# Altium footprint library con-molex-micro-fit-3_0.PCBLIB: 194 footprints (part 9 of 13)
Each footprint in its own frame and in the unit in brackets; x right, y up, seen from the top. Pads: shape width x height; smd on the part's side, far side on the other; paste and mask are expansions set on the pad; w line width, h text height; cw(c..) or ccw(c..) is an arc to the next point about the centre after c.
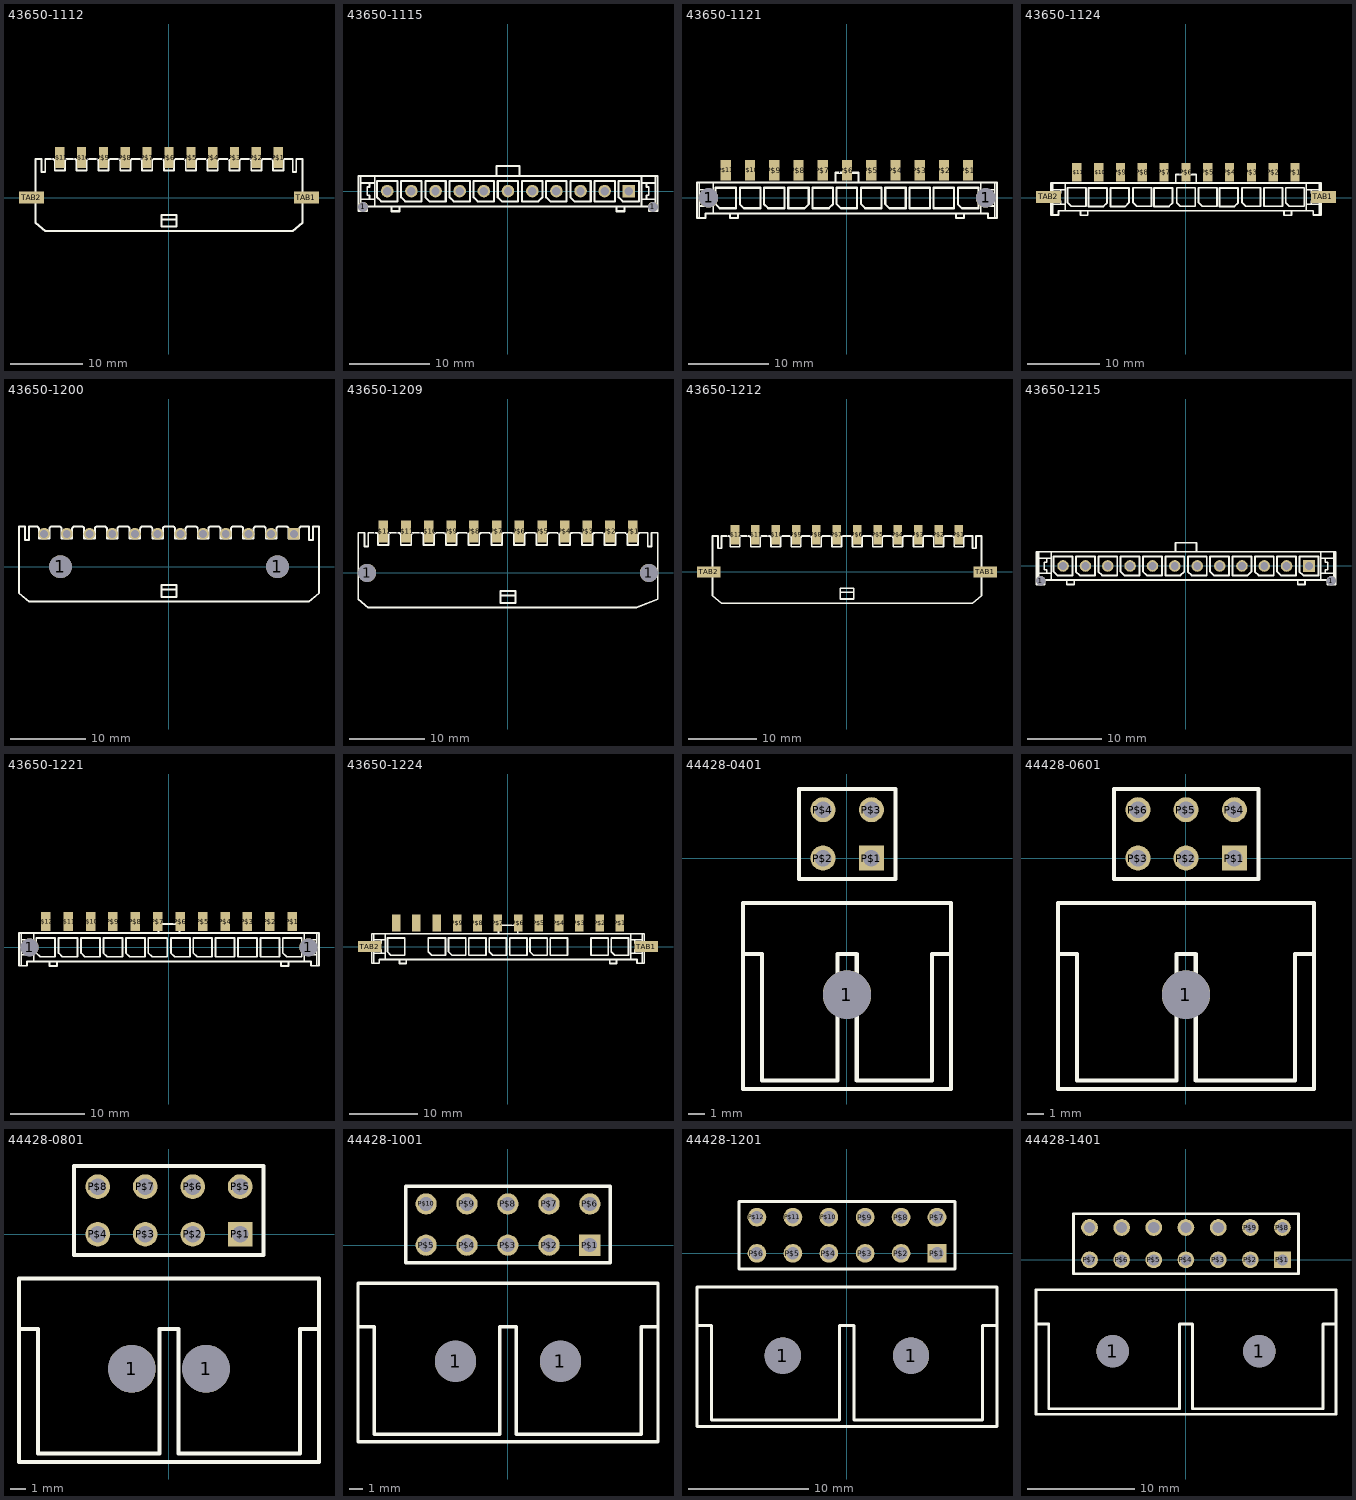
[diagram p8: the footprints below, top view; thin cyan lines are the x and y axes]

## 43650-1112 [mil]
pads (13):
  rect 50x115 smd: P$1(591,216) P$2(473,216) P$3(355,216) P$4(237,216) P$5(119,216) P$6(0,216) P$7(-118.11,216) P$8(-236.22,216) P$9(-354.33,216) P$10(-472.44,216) P$11(-590.55,216)
  rect 136x65 smd: TAB1(744,0) TAB2(-743.31,0)
Top Overlay:
  lines w10: -39.37,-118.11 -39.37,-157.48 40,-157.48 40,-118.11 ; -39.37,-118.11 -39.37,-94.49 40,-94.49 40,-118.11 ; -39.37,-118.11 40,-118.11 ; -721.26,-137.8 -721.26,209 -688.98,209 -688.98,138 -669.29,138 -669.29,209 -629.92,209 cw(c-630.02,197.09) -618.11,197 -618.11,146 -562.99,146 -562.99,197 cw(c-551.09,197.09) -551.18,209 -511.81,209 cw(c-511.91,197.09) -500,197 -500,146 -444.88,146 -444.88,197 cw(c-432.98,197.09) -433.07,209 -393.7,209 cw(c-393.8,197.09) -381.89,197 -381.89,146 -326.77,146 -326.77,197 cw(c-314.87,197.09) -314.96,209 -275.59,209 cw(c-275.69,197.09) -263.78,197 -263.78,146 -208.66,146 -208.66,197 cw(c-196.76,197.09) -196.85,209 -157.48,209 cw(c-157.57,197.09) -145.67,197 -145.67,146 -90.55,146 -90.55,197 cw(c-78.65,197.09) -78.74,209 -39.37,209 cw(c-39.46,197.09) -27.56,197 -27.56,146 28,146 28,197 cw(c40,197) 40,209 79,209 cw(c79,197) 91,197 91,146 146,146 146,197 cw(c158,197) 158,209 197,209 cw(c197,197) 209,197 209,146 264,146 264,197 cw(c276,197) 276,209 315,209 cw(c315,197) 327,197 327,146 382,146 382,197 cw(c394,197) 394,209 434,209 cw(c433.5,197.5) 445,197 445,146 500,146 500,197 cw(c512,197) 512,209 552,209 cw(c549.5,195.67) 563,197 563,146 619,146 619,197 cw(c630.5,197.5) 630,209 670,209 670,138 689,138 689,209 722,209 722,-137.8 670,-181.1 -669.29,-181.1 -721.26,-137.8

## 43650-1115 [mil]
pads (13):
  round 50 hole 50: 1(-708.66,-77.17) 1(709,-77.17)
  rect 61.5x61.5 hole 41: P$1(591,0)
  round 61.5 hole 41: P$2(473,0) P$3(355,0) P$4(237,0) P$5(119,0) P$6(0,0) P$7(-118.11,0) P$8(-236.22,0) P$9(-354.33,0) P$10(-472.44,0) P$11(-590.55,0)
Top Overlay:
  lines w8: -720.47,-97.24 -720.47,-39.37 ; -720.47,75 -720.47,40 ; -652.36,-74.8 -652.36,-39.37 ; -652.36,75 -652.36,40 ; 653,-74.8 653,-39.37 ; 653,75 653,40 ; 721,-97.24 721,-39.37 ; 721,75 721,40 ; -720.47,-39.37 -720.47,40 ; -720.47,-39.37 -677.17,-39.37 ; -720.47,40 -677.17,40 ; -677.17,-39.37 -652.36,-39.37 ; -677.17,-39.37 -677.17,-19.68 -688.98,-19.68 -688.98,20 -677.17,20 -677.17,40 ; -677.17,40 -652.36,40 ; -652.36,-39.37 -652.36,40 ; 653,-39.37 653,40 ; 653,-39.37 678,-39.37 ; 653,40 678,40 ; 678,-39.37 721,-39.37 ; 678,-39.37 678,-19.68 689,-19.68 689,20 678,20 678,40 ; 678,40 721,40 ; 721,-39.37 721,40
  lines w10: -570.87,-74.8 -531.5,-74.8 ; -570.87,-74.8 -652.36,-74.8 -688.98,-74.8 -688.98,-97.24 -720.47,-97.24 -731.3,-97.24 -731.3,75 -720.47,75 -652.36,75 -55.12,75 ; -570.87,-74.8 -570.87,-98.43 -531.5,-98.43 -531.5,-74.8 ; -531.5,-74.8 532,-74.8 ; -55.12,75 56,75 ; -55.12,75 -55.12,123 56,123 56,75 ; 56,75 653,75 721,75 732,75 732,-97.24 721,-97.24 689,-97.24 689,-74.8 653,-74.8 571,-74.8 ; 532,-74.8 571,-74.8 ; 532,-74.8 532,-98.43 571,-98.43 571,-74.8 ; -640.55,-30 -640.55,50 -540.55,50 -540.55,-50 -620.55,-50 -640.55,-30 ; -522.44,-30 -522.44,50 -422.44,50 -422.44,-50 -502.44,-50 -522.44,-30 ; -404.33,-30 -404.33,50 -304.33,50 -304.33,-50 -384.33,-50 -404.33,-30 ; -286.22,-30 -286.22,50 -186.22,50 -186.22,-50 -266.22,-50 -286.22,-30 ; -168.11,-30 -168.11,50 -68.11,50 -68.11,-50 -148.11,-50 -168.11,-30 ; -50,-30 -50,50 50,50 50,-50 -30,-50 -50,-30 ; 69,-50 69,50 169,50 169,-30 149,-50 69,-50 ; 187,-30 187,50 287,50 287,-50 207,-50 187,-30 ; 305,-30 305,50 405,50 405,-50 325,-50 305,-30 ; 423,-50 423,50 523,50 523,-50 423,-50 ; 541,-30 541,50 641,50 641,-50 561,-50 541,-30

## 43650-1121 [mil]
pads (13):
  round 95 hole 95: 1(-675.2,0) 1(676,0)
  rect 50x100 smd: P$1(591,136) P$2(473,136) P$3(355,136) P$4(237,136) P$5(119,136) P$6(0,136) P$7(-118.11,136) P$8(-236.22,136) P$9(-354.33,136) P$10(-472.44,136) P$11(-590.55,136)
Top Overlay:
  lines w8: -720.47,-97.24 -720.47,-39.37 ; -720.47,75 -720.47,40 ; -652.36,-74.8 -652.36,-39.37 ; -652.36,75 -652.36,40 ; 653,-74.8 653,-39.37 ; 653,75 653,40 ; 721,-97.24 721,-39.37 ; 721,75 721,40 ; -720.47,-39.37 -720.47,40 ; -720.47,-39.37 -677.17,-39.37 ; -720.47,40 -677.17,40 ; -677.17,-39.37 -652.36,-39.37 ; -677.17,-39.37 -677.17,-19.68 -688.98,-19.68 -688.98,20 -677.17,20 -677.17,40 ; -677.17,40 -652.36,40 ; -652.36,-39.37 -652.36,40 ; 653,-39.37 653,40 ; 653,-39.37 678,-39.37 ; 653,40 678,40 ; 678,-39.37 721,-39.37 ; 678,-39.37 678,-19.68 689,-19.68 689,20 678,20 678,40 ; 678,40 721,40 ; 721,-39.37 721,40
  lines w10: -570.87,-74.8 -531.5,-74.8 ; -570.87,-74.8 -652.36,-74.8 -688.98,-74.8 -688.98,-97.24 -720.47,-97.24 -731.3,-97.24 -731.3,75 -720.47,75 -652.36,75 -55.12,75 ; -570.87,-74.8 -570.87,-98.43 -531.5,-98.43 -531.5,-74.8 ; -531.5,-74.8 532,-74.8 ; -55.12,75 56,75 ; -55.12,75 -55.12,123 56,123 56,75 ; 56,75 653,75 721,75 732,75 732,-97.24 721,-97.24 689,-97.24 689,-74.8 653,-74.8 571,-74.8 ; 532,-74.8 571,-74.8 ; 532,-74.8 532,-98.43 571,-98.43 571,-74.8 ; -640.55,-30 -640.55,50 -540.55,50 -540.55,-50 -620.55,-50 -640.55,-30 ; -522.44,-30 -522.44,50 -422.44,50 -422.44,-50 -502.44,-50 -522.44,-30 ; -404.33,-30 -404.33,50 -304.33,50 -304.33,-50 -384.33,-50 -404.33,-30 ; -286.22,-50 -286.22,50 -186.22,50 -186.22,-30 -206.22,-50 -286.22,-50 ; -168.11,-50 -168.11,50 -68.11,50 -68.11,-30 -88.11,-50 -168.11,-50 ; -50,-30 -50,50 50,50 50,-50 -30,-50 -50,-30 ; 69,-30 69,50 169,50 169,-50 89,-50 69,-30 ; 187,-30 187,50 287,50 287,-50 207,-50 187,-30 ; 305,-50 405,-50 405,50 305,50 305,-50 ; 423,-50 523,-50 523,50 423,50 423,-50 ; 541,-30 541,50 641,50 641,-50 561,-50 541,-30

## 43650-1124 [mil]
pads (13):
  rect 50x100 smd: P$1(592,138) P$2(474,138) P$3(356,138) P$4(238,138) P$5(120,138) P$6(2,138) P$7(-116.68,138) P$8(-234.79,138) P$9(-352.9,138) P$10(-471.01,138) P$11(-589.12,138)
  rect 136x65 smd: TAB1(746,3) TAB2(-742.27,3)
Top Overlay:
  lines w8: -719.04,-94.37 -719.04,-36.5 ; -719.04,78 -719.04,43 ; -650.93,-71.93 -650.93,-36.5 ; -650.93,78 -650.93,43 ; 654,-71.93 654,-36.5 ; 654,78 654,43 ; 722,-94.37 722,-36.5 ; 722,78 722,43 ; -719.04,-36.5 -719.04,43 ; -719.04,-36.5 -675.73,-36.5 ; -719.04,43 -675.73,43 ; -675.73,-36.5 -650.93,-36.5 ; -675.73,-36.5 -675.73,-16.81 -687.54,-16.81 -687.54,23 -675.73,23 -675.73,43 ; -675.73,43 -650.93,43 ; -650.93,-36.5 -650.93,43 ; 654,-36.5 654,43 ; 654,-36.5 679,-36.5 ; 654,43 679,43 ; 679,-36.5 722,-36.5 ; 679,-36.5 679,-16.81 691,-16.81 691,23 679,23 679,43 ; 679,43 722,43 ; 722,-36.5 722,43
  lines w10: -569.43,-71.93 -530.06,-71.93 ; -569.43,-71.93 -650.93,-71.93 -687.54,-71.93 -687.54,-94.37 -719.04,-94.37 -729.87,-94.37 -729.87,78 -719.04,78 -650.93,78 -53.69,78 ; -569.43,-71.93 -569.43,-95.55 -530.06,-95.55 -530.06,-71.93 ; -530.06,-71.93 533,-71.93 ; -53.69,78 57,78 ; -53.69,78 -53.69,125 57,125 57,78 ; 57,78 654,78 722,78 733,78 733,-94.37 722,-94.37 691,-94.37 691,-71.93 654,-71.93 573,-71.93 ; 533,-71.93 573,-71.93 ; 533,-71.93 533,-95.55 573,-95.55 573,-71.93 ; -639.12,-27.13 -639.12,53 -539.12,53 -539.12,-47.13 -619.12,-47.13 -639.12,-27.13 ; -525.32,-48.57 -525.32,52 -425.31,52 -425.31,-28.57 -445.31,-48.57 -525.32,-48.57 ; -407.2,-48.57 -407.2,52 -307.2,52 -307.2,-28.57 -327.2,-48.57 -407.2,-48.57 ; -284.79,-27.13 -284.79,53 -184.79,53 -184.79,-47.13 -264.79,-47.13 -284.79,-27.13 ; -170.98,-48.57 -170.98,52 -70.98,52 -70.98,-28.57 -90.98,-48.57 -170.98,-48.57 ; -48.57,-27.13 -48.57,53 52,53 52,-47.13 -28.57,-47.13 -48.57,-27.13 ; 70,-27.13 70,53 170,53 170,-47.13 90,-47.13 70,-27.13 ; 184,-48.57 184,52 284,52 284,-28.57 264,-48.57 184,-48.57 ; 306,-27.13 306,53 406,53 406,-47.13 326,-47.13 306,-27.13 ; 424,-47.13 524,-47.13 524,53 424,53 424,-47.13 ; 542,-27.13 542,53 642,53 642,-47.13 562,-47.13 542,-27.13

## 43650-1200 [mil]
pads (14):
  round 119 hole 119: 1(-564.96,0) 1(565,0)
  rect 61.5x61.5 hole 41: P$1(650,171)
  round 61.5 hole 41: P$2(532,171) P$3(414,171) P$4(296,171) P$5(178,171) P$6(60,171) P$7(-59.06,171) P$8(-177.17,171) P$9(-295.28,171) P$10(-413.39,171) P$11(-531.5,171) P$12(-649.61,171)
Top Overlay:
  lines w10: -39.37,-118.11 -39.37,-157.48 40,-157.48 40,-118.11 ; -39.37,-118.11 -39.37,-94.49 40,-94.49 40,-118.11 ; -39.37,-118.11 40,-118.11 ; -780.32,-137.8 -780.32,209 -748.03,209 -748.03,138 -728.35,138 -728.35,209 -688.98,209 cw(c-689.07,197.09) -677.17,197 -677.17,146 -622.05,146 -622.05,197 cw(c-610.14,197.09) -610.24,209 -570.87,209 cw(c-570.96,197.09) -559.06,197 -559.06,146 -503.94,146 -503.94,197 cw(c-492.03,197.09) -492.13,209 -452.76,209 cw(c-452.85,197.09) -440.94,197 -440.94,146 -385.83,146 -385.83,197 cw(c-373.92,197.09) -374.02,209 -334.65,209 cw(c-334.74,197.09) -322.83,197 -322.83,146 -267.72,146 -267.72,197 cw(c-255.81,197.09) -255.91,209 -216.54,209 cw(c-216.63,197.09) -204.72,197 -204.72,146 -149.61,146 -149.61,197 cw(c-137.7,197.09) -137.8,209 -98.43,209 cw(c-98.52,197.09) -86.61,197 -86.61,146 -31.5,146 -31.5,197 cw(c-19.59,197.09) -19.69,209 20,209 cw(c20,197) 32,197 32,146 87,146 87,197 cw(c99,197) 99,209 138,209 cw(c138,197) 150,197 150,146 205,146 205,197 cw(c217,197) 217,209 256,209 cw(c256,197) 268,197 268,146 323,146 323,197 cw(c335,197) 335,209 375,209 cw(c374.5,197.5) 386,197 386,146 441,146 441,197 cw(c453,197) 453,209 493,209 cw(c492.5,197.5) 504,197 504,146 560,146 560,197 cw(c571.5,197.5) 571,209 611,209 cw(c609,195) 623,197 623,146 678,146 678,197 cw(c689.5,197.5) 689,209 729,209 729,138 749,138 749,209 781,209 781,-137.8 729,-181.1 -728.35,-181.1 -780.32,-137.8

## 43650-1209 [mil]
pads (14):
  round 95 hole 95: 1(-734.25,0) 1(735,0)
  rect 50x115 smd: P$1(650,216) P$2(532,216) P$3(414,216) P$4(296,216) P$5(178,216) P$6(60,216) P$7(-59.06,216) P$8(-177.17,216) P$9(-295.28,216) P$10(-413.39,216) P$11(-531.5,216) P$12(-649.61,216)
Top Overlay:
  lines w10: -39.37,-118.11 -39.37,-157.48 40,-157.48 40,-118.11 ; -39.37,-118.11 -39.37,-94.49 40,-94.49 40,-118.11 ; -39.37,-118.11 40,-118.11 ; -780.32,-137.8 -780.32,209 -748.03,209 -748.03,138 -728.35,138 -728.35,209 -688.98,209 cw(c-689.07,197.09) -677.17,197 -677.17,146 -622.05,146 -622.05,197 cw(c-610.14,197.09) -610.24,209 -570.87,209 cw(c-570.96,197.09) -559.06,197 -559.06,146 -503.94,146 -503.94,197 cw(c-492.03,197.09) -492.13,209 -452.76,209 cw(c-452.85,197.09) -440.94,197 -440.94,146 -385.83,146 -385.83,197 cw(c-373.92,197.09) -374.02,209 -334.65,209 cw(c-334.74,197.09) -322.83,197 -322.83,146 -267.72,146 -267.72,197 cw(c-255.81,197.09) -255.91,209 -216.54,209 cw(c-216.63,197.09) -204.72,197 -204.72,146 -149.61,146 -149.61,197 cw(c-137.7,197.09) -137.8,209 -98.43,209 cw(c-98.52,197.09) -86.61,197 -86.61,146 -31.5,146 -31.5,197 cw(c-19.59,197.09) -19.69,209 20,209 cw(c20,197) 32,197 32,146 87,146 87,197 cw(c99,197) 99,209 138,209 cw(c138,197) 150,197 150,146 205,146 205,197 cw(c217,197) 217,209 256,209 cw(c256,197) 268,197 268,146 323,146 323,197 cw(c335,197) 335,209 375,209 cw(c374.5,197.5) 386,197 386,146 441,146 441,197 cw(c453,197) 453,209 493,209 cw(c492.5,197.5) 504,197 504,146 560,146 560,197 cw(c571.5,197.5) 571,209 611,209 cw(c609,195) 623,197 623,146 678,146 678,197 cw(c689.5,197.5) 689,209 729,209 729,138 749,138 749,209 781,209 781,-137.8 670,-181.1 -728.35,-181.1 -780.32,-137.8

## 43650-1212 [mil]
pads (14):
  rect 50x115 smd: P$1(650,216) P$2(532,216) P$3(414,216) P$4(296,216) P$5(178,216) P$6(60,216) P$7(-59.06,216) P$8(-177.17,216) P$9(-295.28,216) P$10(-413.39,216) P$11(-531.5,216) P$12(-649.61,216)
  rect 136x65 smd: TAB1(803,0) TAB2(-802.36,0)
Top Overlay:
  lines w10: -39.37,-118.11 -39.37,-157.48 40,-157.48 40,-118.11 ; -39.37,-118.11 -39.37,-94.49 40,-94.49 40,-118.11 ; -39.37,-118.11 40,-118.11 ; -780.32,-137.8 -780.32,209 -748.03,209 -748.03,138 -728.35,138 -728.35,209 -688.98,209 cw(c-689.07,197.09) -677.17,197 -677.17,146 -622.05,146 -622.05,197 cw(c-610.14,197.09) -610.24,209 -570.87,209 cw(c-570.96,197.09) -559.06,197 -559.06,146 -503.94,146 -503.94,197 cw(c-492.03,197.09) -492.13,209 -452.76,209 cw(c-452.85,197.09) -440.94,197 -440.94,146 -385.83,146 -385.83,197 cw(c-373.92,197.09) -374.02,209 -334.65,209 cw(c-334.74,197.09) -322.83,197 -322.83,146 -267.72,146 -267.72,197 cw(c-255.81,197.09) -255.91,209 -216.54,209 cw(c-216.63,197.09) -204.72,197 -204.72,146 -149.61,146 -149.61,197 cw(c-137.7,197.09) -137.8,209 -98.43,209 cw(c-98.52,197.09) -86.61,197 -86.61,146 -31.5,146 -31.5,197 cw(c-19.59,197.09) -19.69,209 20,209 cw(c20,197) 32,197 32,146 87,146 87,197 cw(c99,197) 99,209 138,209 cw(c138,197) 150,197 150,146 205,146 205,197 cw(c217,197) 217,209 256,209 cw(c256,197) 268,197 268,146 323,146 323,197 cw(c335,197) 335,209 375,209 cw(c374.5,197.5) 386,197 386,146 441,146 441,197 cw(c453,197) 453,209 493,209 cw(c492.5,197.5) 504,197 504,146 560,146 560,197 cw(c571.5,197.5) 571,209 611,209 cw(c609,195) 623,197 623,146 678,146 678,197 cw(c689.5,197.5) 689,209 729,209 729,138 749,138 749,209 781,209 781,-137.8 729,-181.1 -728.35,-181.1 -780.32,-137.8

## 43650-1215 [mil]
pads (14):
  round 50 hole 50: 1(-767.72,-77.17) 1(768,-77.17)
  rect 61.5x61.5 hole 41: P$1(650,0)
  round 61.5 hole 41: P$2(532,0) P$3(414,0) P$4(296,0) P$5(178,0) P$6(60,0) P$7(-59.06,0) P$8(-177.17,0) P$9(-295.28,0) P$10(-413.39,0) P$11(-531.5,0) P$12(-649.61,0)
Top Overlay:
  lines w8: -779.53,-97.24 -779.53,-39.37 ; -779.53,75 -779.53,40 ; -711.42,-74.8 -711.42,-39.37 ; -711.42,75 -711.42,40 ; 712,-74.8 712,-39.37 ; 712,75 712,40 ; 780,-97.24 780,-39.37 ; 780,75 780,40 ; -779.53,-39.37 -779.53,40 ; -779.53,-39.37 -736.22,-39.37 ; -779.53,40 -736.22,40 ; -736.22,-39.37 -711.42,-39.37 ; -736.22,-39.37 -736.22,-19.68 -748.03,-19.68 -748.03,20 -736.22,20 -736.22,40 ; -736.22,40 -711.42,40 ; -711.42,-39.37 -711.42,40 ; 712,-39.37 712,40 ; 712,-39.37 737,-39.37 ; 712,40 737,40 ; 737,-39.37 780,-39.37 ; 737,-39.37 737,-19.68 749,-19.68 749,20 737,20 737,40 ; 737,40 780,40 ; 780,-39.37 780,40
  lines w10: -629.92,-74.8 -590.55,-74.8 ; -629.92,-74.8 -711.42,-74.8 -748.03,-74.8 -748.03,-97.24 -779.53,-97.24 -790.35,-97.24 -790.35,75 -779.53,75 -711.42,75 -55.12,75 ; -629.92,-74.8 -629.92,-98.43 -590.55,-98.43 -590.55,-74.8 ; -590.55,-74.8 591,-74.8 ; -55.12,75 56,75 ; -55.12,75 -55.12,123 56,123 56,75 ; 56,75 712,75 780,75 791,75 791,-97.24 780,-97.24 749,-97.24 749,-74.8 712,-74.8 630,-74.8 ; 591,-74.8 630,-74.8 ; 591,-74.8 591,-98.43 630,-98.43 630,-74.8 ; -699.61,-30 -699.61,50 -599.61,50 -599.61,-50 -679.61,-50 -699.61,-30 ; -581.5,-30 -581.5,50 -481.5,50 -481.5,-50 -561.5,-50 -581.5,-30 ; -463.39,-30 -463.39,50 -363.39,50 -363.39,-50 -443.39,-50 -463.39,-30 ; -345.28,-30 -345.28,50 -245.28,50 -245.28,-50 -325.28,-50 -345.28,-30 ; -227.17,-30 -227.17,50 -127.17,50 -127.17,-50 -207.17,-50 -227.17,-30 ; -109.06,-50 -109.06,50 -9.06,50 -9.06,-30 -29.06,-50 -109.06,-50 ; 10,-30 10,50 110,50 110,-50 30,-50 10,-30 ; 128,-30 128,50 228,50 228,-50 148,-50 128,-30 ; 246,-50 246,50 346,50 346,-30 326,-50 246,-50 ; 364,-30 364,50 464,50 464,-50 384,-50 364,-30 ; 482,-30 482,50 582,50 582,-50 502,-50 482,-30 ; 600,-30 600,50 700,50 700,-50 620,-50 600,-30

## 43650-1221 [mil]
pads (14):
  round 95 hole 95: 1(-734.25,0) 1(735,0)
  rect 50x100 smd: P$1(650,136) P$2(532,136) P$3(414,136) P$4(296,136) P$5(178,136) P$6(60,136) P$7(-59.06,136) P$8(-177.17,136) P$9(-295.28,136) P$10(-413.39,136) P$11(-531.5,136) P$12(-649.61,136)
Top Overlay:
  lines w8: -779.53,-97.24 -779.53,-39.37 ; -779.53,75 -779.53,40 ; -711.42,-74.8 -711.42,-39.37 ; -711.42,75 -711.42,40 ; 712,-74.8 712,-39.37 ; 712,75 712,40 ; 780,-97.24 780,-39.37 ; 780,75 780,40 ; -779.53,-39.37 -779.53,40 ; -779.53,-39.37 -736.22,-39.37 ; -779.53,40 -736.22,40 ; -736.22,-39.37 -711.42,-39.37 ; -736.22,-39.37 -736.22,-19.68 -748.03,-19.68 -748.03,20 -736.22,20 -736.22,40 ; -736.22,40 -711.42,40 ; -711.42,-39.37 -711.42,40 ; 712,-39.37 712,40 ; 712,-39.37 737,-39.37 ; 712,40 737,40 ; 737,-39.37 780,-39.37 ; 737,-39.37 737,-19.68 749,-19.68 749,20 737,20 737,40 ; 737,40 780,40 ; 780,-39.37 780,40
  lines w10: -629.92,-74.8 -590.55,-74.8 ; -629.92,-74.8 -711.42,-74.8 -748.03,-74.8 -748.03,-97.24 -779.53,-97.24 -790.35,-97.24 -790.35,75 -779.53,75 -711.42,75 -55.12,75 ; -629.92,-74.8 -629.92,-98.43 -590.55,-98.43 -590.55,-74.8 ; -590.55,-74.8 591,-74.8 ; -55.12,75 56,75 ; -55.12,75 -55.12,123 56,123 56,75 ; 56,75 712,75 780,75 791,75 791,-97.24 780,-97.24 749,-97.24 749,-74.8 712,-74.8 630,-74.8 ; 591,-74.8 630,-74.8 ; 591,-74.8 591,-98.43 630,-98.43 630,-74.8 ; -699.61,-30 -699.61,50 -599.61,50 -599.61,-50 -679.61,-50 -699.61,-30 ; -581.5,-30 -581.5,50 -481.5,50 -481.5,-50 -561.5,-50 -581.5,-30 ; -463.39,-30 -463.39,50 -363.39,50 -363.39,-50 -443.39,-50 -463.39,-30 ; -345.28,-30 -345.28,50 -245.28,50 -245.28,-50 -325.28,-50 -345.28,-30 ; -227.17,-30 -227.17,50 -127.17,50 -127.17,-50 -207.17,-50 -227.17,-30 ; -109.06,-30 -109.06,50 -9.06,50 -9.06,-50 -89.06,-50 -109.06,-30 ; 10,-30 10,50 110,50 110,-50 30,-50 10,-30 ; 128,-30 128,50 228,50 228,-50 148,-50 128,-30 ; 246,-50 346,-50 346,50 246,50 246,-50 ; 364,-50 464,-50 464,50 364,50 364,-50 ; 482,-50 582,-50 582,50 482,50 482,-50 ; 600,-30 600,50 700,50 700,-50 620,-50 600,-30

## 43650-1224 [mil]
pads (14):
  rect 50x100 smd: P$1(650,136) P$2(532,136) P$3(414,136) P$4(296,136) P$5(178,136) P$6(60,136) P$7(-59.06,136) P$8(-177.17,136) P$9(-295.28,136) P$10(-413.39,136) P$11(-531.5,136) P$12(-649.61,136)
  rect 136x65 smd: TAB1(803,0) TAB2(-802.76,0)
Top Overlay:
  lines w8: -779.53,-97.24 -779.53,-39.37 ; -779.53,75 -779.53,40 ; -711.42,-74.8 -711.42,-39.37 ; -711.42,75 -711.42,40 ; 712,-74.8 712,-39.37 ; 712,75 712,40 ; 780,-97.24 780,-39.37 ; 780,75 780,40 ; -779.53,-39.37 -779.53,40 ; -779.53,-39.37 -736.22,-39.37 ; -779.53,40 -736.22,40 ; -736.22,-39.37 -711.42,-39.37 ; -736.22,-39.37 -736.22,-19.68 -748.03,-19.68 -748.03,20 -736.22,20 -736.22,40 ; -736.22,40 -711.42,40 ; -711.42,-39.37 -711.42,40 ; 712,-39.37 712,40 ; 712,-39.37 737,-39.37 ; 712,40 737,40 ; 737,-39.37 780,-39.37 ; 737,-39.37 737,-19.68 749,-19.68 749,20 737,20 737,40 ; 737,40 780,40 ; 780,-39.37 780,40
  lines w10: -629.92,-74.8 -590.55,-74.8 ; -629.92,-74.8 -711.42,-74.8 -748.03,-74.8 -748.03,-97.24 -779.53,-97.24 -790.35,-97.24 -790.35,75 -779.53,75 -711.42,75 -55.12,75 ; -629.92,-74.8 -629.92,-98.43 -590.55,-98.43 -590.55,-74.8 ; -590.55,-74.8 591,-74.8 ; -55.12,75 56,75 ; -55.12,75 -55.12,123 56,123 56,75 ; 56,75 712,75 780,75 791,75 791,-97.24 780,-97.24 749,-97.24 749,-74.8 712,-74.8 630,-74.8 ; 591,-74.8 630,-74.8 ; 591,-74.8 591,-98.43 630,-98.43 630,-74.8 ; -699.61,-30 -699.61,50 -599.61,50 -599.61,-50 -679.61,-50 -699.61,-30 ; -463.39,-30 -463.39,50 -363.39,50 -363.39,-50 -443.39,-50 -463.39,-30 ; -345.28,-30 -345.28,50 -245.28,50 -245.28,-50 -325.28,-50 -345.28,-30 ; -227.17,-50 -127.17,-50 -127.17,50 -227.17,50 -227.17,-50 ; -109.06,-30 -109.06,50 -9.06,50 -9.06,-50 -89.06,-50 -109.06,-30 ; 10,-50 110,-50 110,50 10,50 10,-50 ; 128,-30 128,50 228,50 228,-50 148,-50 128,-30 ; 246,-50 346,-50 346,50 246,50 246,-50 ; 482,-50 582,-50 582,50 482,50 482,-50 ; 600,-30 600,50 700,50 700,-50 620,-50 600,-30
Bottom Overlay:
  lines w10: -581.5,-50 -581.5,50 -481.5,50 -481.5,-30 -501.5,-50 -581.5,-50 ; 364,-50 364,50 464,50 464,-30 444,-50 364,-50

## 44428-0401 [mil]
pads (5):
  round 119 hole 119: 1(0,-335.83)
  rect 61.5x61.5 hole 41: P$1(60,0)
  round 61.5 hole 41: P$2(-59.06,0) P$3(60,119) P$4(-59.06,119)
Top Overlay:
  lines w10: -255.91,-236.22 -255.91,-110.24 256,-110.24 256,-236.22 ; -255.91,-236.22 -255.91,-568.11 256,-568.11 256,-236.22 ; -255.91,-236.22 -208.66,-236.22 -208.66,-547.24 -23.62,-547.24 -23.62,-236.22 24,-236.22 24,-547.24 209,-547.24 209,-236.22 256,-236.22 ; -118.11,-51.18 119,-51.18 119,170 -118.11,170 -118.11,-51.18

## 44428-0601 [mil]
pads (7):
  round 119 hole 119: 1(0,-335.83)
  rect 61.5x61.5 hole 41: P$1(119,0)
  round 61.5 hole 41: P$2(0,0) P$3(-118.11,0) P$4(119,119) P$5(0,119) P$6(-118.11,119)
Top Overlay:
  lines w10: -314.96,-236.22 -314.96,-110.24 315,-110.24 315,-236.22 ; -314.96,-236.22 -314.96,-568.11 315,-568.11 315,-236.22 ; -314.96,-236.22 -267.72,-236.22 -267.72,-547.24 -23.62,-547.24 -23.62,-236.22 24,-236.22 24,-547.24 268,-547.24 268,-236.22 315,-236.22 ; -177.17,-51.18 178,-51.18 178,170 -177.17,170 -177.17,-51.18

## 44428-0801 [mil]
pads (10):
  round 119 hole 119: 1(-92.13,-335.83) 1(93,-335.83)
  rect 61.5x61.5 hole 41: P$1(178,0)
  round 61.5 hole 41: P$2(60,0) P$3(-59.06,0) P$4(-177.17,0) P$5(178,119) P$6(60,119) P$7(-59.06,119) P$8(-177.17,119)
Top Overlay:
  lines w10: -374.02,-236.22 -374.02,-110.24 375,-110.24 375,-236.22 ; -374.02,-236.22 -374.02,-568.11 375,-568.11 375,-236.22 ; -374.02,-236.22 -326.77,-236.22 -326.77,-547.24 -23.62,-547.24 -23.62,-236.22 24,-236.22 24,-547.24 327,-547.24 327,-236.22 375,-236.22 ; -236.22,-51.18 237,-51.18 237,170 -236.22,170 -236.22,-51.18

## 44428-1001 [mil]
pads (12):
  round 119 hole 119: 1(-151.18,-335.83) 1(152,-335.83)
  rect 61.5x61.5 hole 41: P$1(237,0)
  round 61.5 hole 41: P$2(119,0) P$3(0,0) P$4(-118.11,0) P$5(-236.22,0) P$6(237,119) P$7(119,119) P$8(0,119) P$9(-118.11,119) P$10(-236.22,119)
Top Overlay:
  lines w10: -433.07,-236.22 -433.07,-110.24 434,-110.24 434,-236.22 ; -433.07,-236.22 -433.07,-568.11 434,-568.11 434,-236.22 ; -433.07,-236.22 -385.83,-236.22 -385.83,-547.24 -23.62,-547.24 -23.62,-236.22 24,-236.22 24,-547.24 386,-547.24 386,-236.22 434,-236.22 ; -295.28,-51.18 296,-51.18 296,170 -295.28,170 -295.28,-51.18

## 44428-1201 [mil]
pads (14):
  round 119 hole 119: 1(-210.24,-335.83) 1(211,-335.83)
  rect 61.5x61.5 hole 41: P$1(296,0)
  round 61.5 hole 41: P$2(178,0) P$3(60,0) P$4(-59.06,0) P$5(-177.17,0) P$6(-295.28,0) P$7(296,119) P$8(178,119) P$9(60,119) P$10(-59.06,119) P$11(-177.17,119) P$12(-295.28,119)
Top Overlay:
  lines w10: -492.13,-236.22 -492.13,-110.24 493,-110.24 493,-236.22 ; -492.13,-236.22 -492.13,-568.11 493,-568.11 493,-236.22 ; -492.13,-236.22 -444.88,-236.22 -444.88,-547.24 -23.62,-547.24 -23.62,-236.22 24,-236.22 24,-547.24 445,-547.24 445,-236.22 493,-236.22 ; -354.33,-51.18 355,-51.18 355,170 -354.33,170 -354.33,-51.18

## 44428-1401 [mil]
pads (16):
  round 119 hole 119: 1(-269.29,-335.83) 1(270,-335.83)
  rect 61.5x61.5 hole 41: P$1(355,0)
  round 61.5 hole 41: P$2(237,0) P$3(119,0) P$4(0,0) P$5(-118.11,0) P$6(-236.22,0) P$7(-354.33,0) P$8(355,119) P$9(237,119) P$10(119,119) P$11(0,119) P$12(-118.11,119) P$13(-236.22,119) P$14(-354.33,119)
Top Overlay:
  lines w10: -551.18,-236.22 -551.18,-110.24 552,-110.24 552,-236.22 ; -551.18,-236.22 -551.18,-568.11 552,-568.11 552,-236.22 ; -551.18,-236.22 -503.94,-236.22 -503.94,-547.24 -23.62,-547.24 -23.62,-236.22 24,-236.22 24,-547.24 504,-547.24 504,-236.22 552,-236.22 ; -413.39,-51.18 414,-51.18 414,170 -413.39,170 -413.39,-51.18